# Altium schematic symbol library OPAMP.SchLib: 1 symbol
Pins are listed as number, name and electrical type; pins without a type are passive.

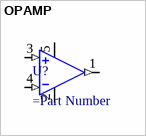
[diagram p0: symbol OPAMP]

## OPAMP
designator U?
=Description
pins: 1 (out), 2 (power), 3 (in), 4 (in), 5 (power)